# Altium schematic symbol library MCP73811.Schlib: 1 symbol
Pins are listed as number, name and electrical type; pins without a type are passive.

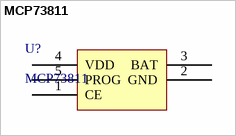
[diagram p0: symbol MCP73811]

## MCP73811
designator U?
pins: 1 CE, 2 GND, 3 BAT, 4 VDD, 5 PROG